# Altium footprint library R_C.PcbLib: 46 footprints (part 2 of 3)
Each footprint in its own frame and in the unit in brackets; x right, y up, seen from the top. Pads: shape width x height; smd on the part's side, far side on the other; paste and mask are expansions set on the pad; w line width, h text height; cw(c..) or ccw(c..) is an arc to the next point about the centre after c.
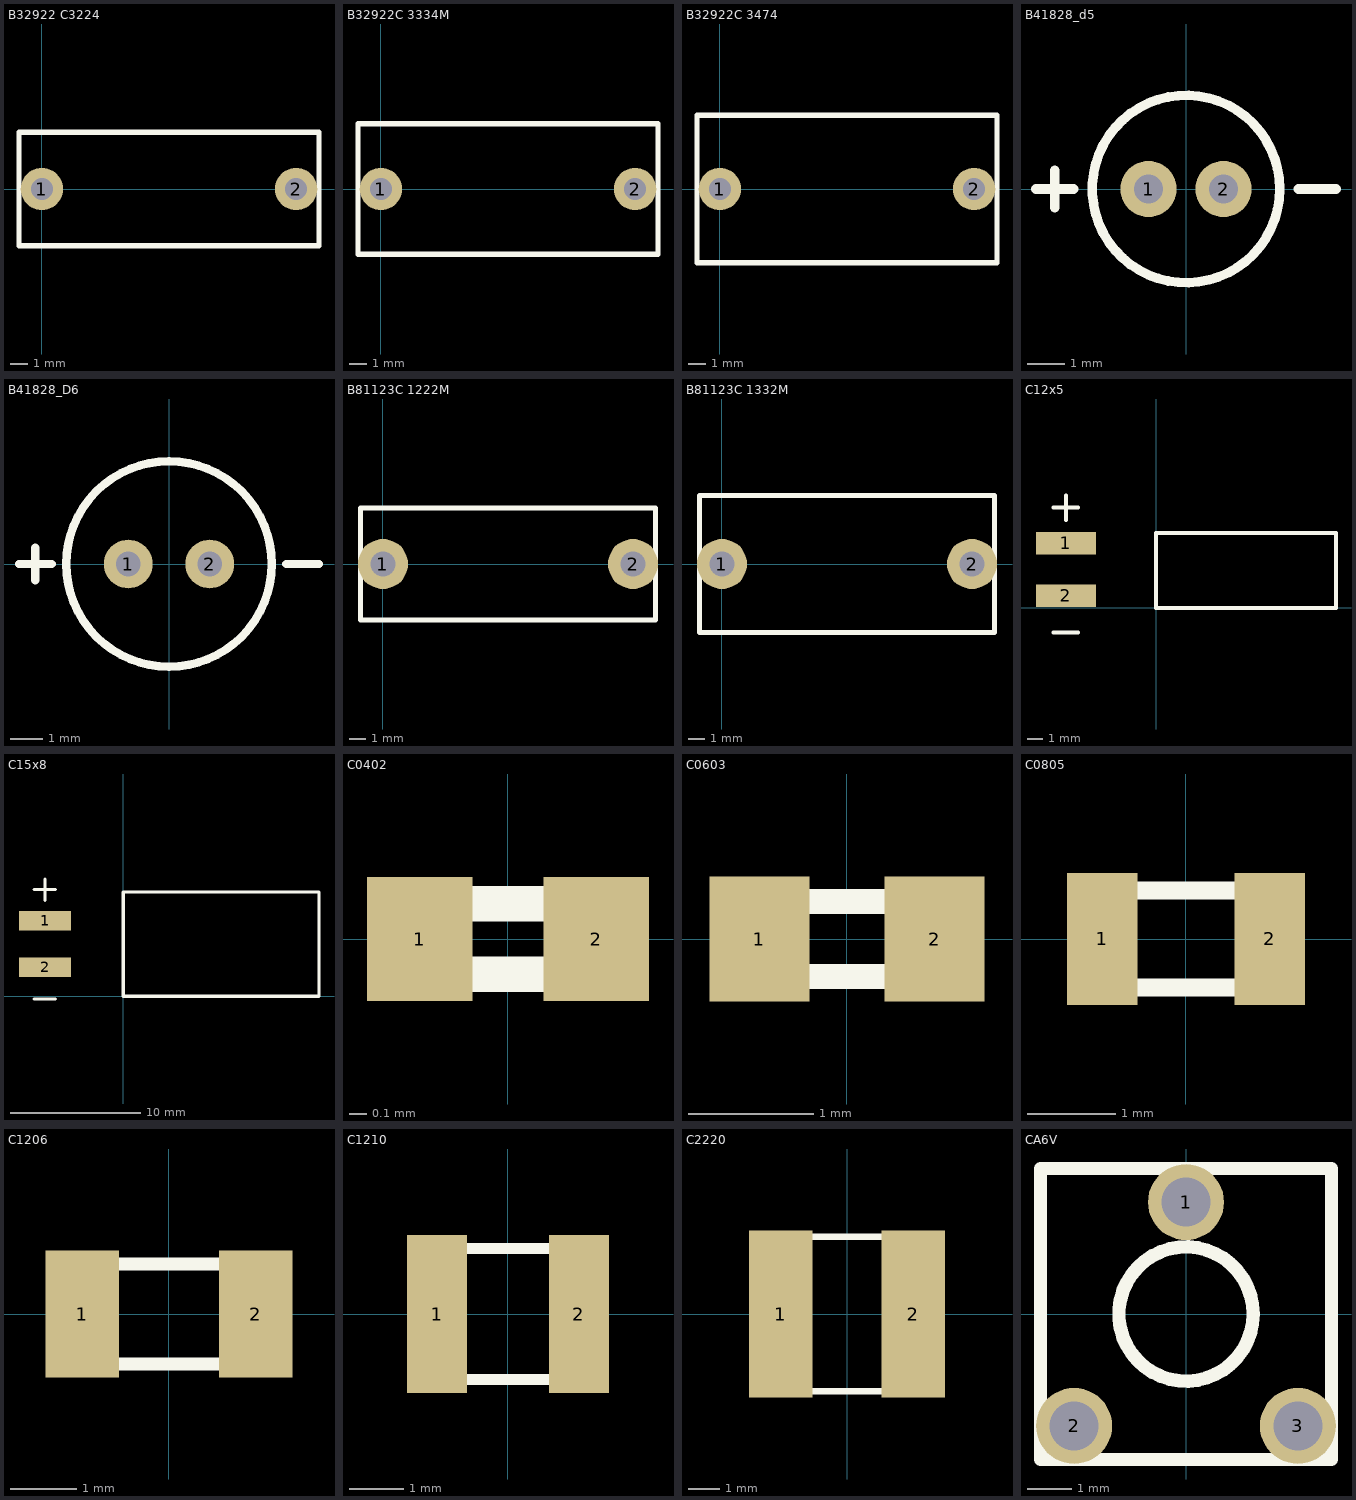
[diagram p1: the footprints below, top view; thin cyan lines are the x and y axes]

## B32922 C3224 [mm]
height 12.5
pads (2):
  round 2.5 hole 1.3: 1(0,0) 2(15,0)
Top Overlay:
  lines w0.3: -1.35,-3.35 -1.35,3.35 16.35,3.35 16.35,-3.35 -1.35,-3.35
3D body: height 3, standoff 0, extent 14.504,-0.499 15.5,0.499
3D body: height 3, standoff 0, extent -0.496,-0.499 0.5,0.499
3D body: height 12.5, standoff 0, extent -1.5,-3.5 16.5,3.5

## B32922C 3334M [mm]
height 14
pads (2):
  round 2.5 hole 1.3: 1(0,0) 2(15,0)
Top Overlay:
  lines w0.3: -1.35,-3.85 -1.35,3.85 16.35,3.85 16.35,-3.85 -1.35,-3.85
3D body: height 3, standoff 0, extent 14.504,-0.499 15.5,0.499
3D body: height 3, standoff 0, extent -0.496,-0.499 0.5,0.499
3D body: height 14, standoff 0, extent -1.5,-4 16.5,4

## B32922C 3474 [mm]
height 17.5
pads (2):
  round 2.5 hole 1.3: 1(0,0) 2(15,0)
Top Overlay:
  lines w0.3: -1.35,-4.35 -1.35,4.35 16.35,4.35 16.35,-4.35 -1.35,-4.35
3D body: height 3, standoff 0, extent 14.504,-0.499 15.5,0.499
3D body: height 3, standoff 0, extent -0.496,-0.499 0.5,0.499
3D body: height 17.5, standoff 0, extent -1.5,-4.5 16.5,4.5

## B41828_d5 [mm]
height 11
pads (2):
  round 1.5 hole 0.762: 1(-1,0) 2(1,0)
Top Overlay:
  circle w0.254: c0,0 r2.5
  lines w0.254: -4,0 -3,0 ; -3.5,-0.5 -3.5,0.5 ; 3,0 4,0

## B41828_D6 [mm]
height 11
pads (2):
  round 1.5 hole 0.762: 1(-1.25,0) 2(1.25,0)
Top Overlay:
  circle w0.254: c0,0 r3.15
  lines w0.254: -4.6,0 -3.6,0 ; -4.1,-0.5 -4.1,0.5 ; 3.6,0 4.6,0

## B81123C 1222M [mm]
height 12.5
pads (2):
  round 3 hole 1.5: 1(0,0) 2(15,0)
Top Overlay:
  lines w0.3: -1.35,-3.35 16.35,-3.35 16.35,3.35 -1.35,3.35 -1.35,-3.35
3D body: height 3, standoff 0, extent 14.504,-0.499 15.5,0.499
3D body: height 3, standoff 0, extent -0.496,-0.499 0.5,0.499
3D body: height 12.5, standoff 0, extent -1.5,-3.5 16.5,3.5

## B81123C 1332M [mm]
height 14.5
pads (2):
  round 3 hole 1.5: 1(0,0) 2(15,0)
Top Overlay:
  lines w0.3: -1.35,-4.1 -1.35,4.1 16.35,4.1 16.35,-4.1 -1.35,-4.1
3D body: height 3, standoff 0, extent 14.504,-0.499 15.5,0.499
3D body: height 3, standoff 0, extent -0.496,-0.499 0.5,0.499
3D body: height 14.5, standoff 0, extent -1.5,-4.25 16.5,4.25

## C12x5 [mm]
pads (2):
  rect 4x1.5 smd: 1(-6,4.3) 2(-6,0.8)
Top Overlay:
  lines w0.254: -6.85,-1.65 -5.2,-1.65 ; -6.85,6.7 -5.2,6.7 ; -6,5.85 -6,7.5 ; 0,0 12,0 12,5 0,5 0,0

## C15x8 [mm]
pads (2):
  rect 4x1.5 smd: 1(-6,5.8) 2(-6,2.25)
Top Overlay:
  lines w0.254: -6.85,-0.2 -5.2,-0.2 ; -6.85,8.2 -5.2,8.2 ; -6,7.35 -6,9 ; 0,0 15,0 15,8 0,8 0,0

## C0402 [mm]
height 0.6
pads (2):
  rect 0.6x0.7 smd: 1(-0.5,0) 2(0.5,0)
Top Overlay:
  lines w0.2: -0.45,-0.2 -0.45,0.2 0.45,0.2 0.45,-0.2 -0.45,-0.2
3D body: height 0.58, standoff 0.01, extent -0.55,-0.3 0.55,0.3
3D body: height 0.6, standoff 0, extent 0.2,-0.31 0.56,0.31
3D body: height 0.6, standoff 0, extent -0.56,-0.31 -0.2,0.31

## C0603 [mm]
height 0.9
pads (2):
  rect 0.8x1 smd: 1(-0.7,0) 2(0.7,0)
Top Overlay:
  lines w0.2: -0.75,-0.3 0.75,-0.3 0.75,0.3 -0.75,0.3 -0.75,-0.3
3D body: height 0.9, standoff 0, extent 0.3,-0.41 0.86,0.41
3D body: height 0.9, standoff 0, extent -0.86,-0.41 -0.3,0.41
3D body: height 0.88, standoff 0.01, extent -0.85,-0.4 0.85,0.4

## C0805 [mm]
height 1.3
pads (2):
  rect 0.8x1.5 smd: 1(-0.95,0) 2(0.95,0)
Top Overlay:
  lines w0.2: -1,-0.55 1,-0.55 1,0.55 -1,0.55 -1,-0.55
3D body: height 1.3, standoff 0, extent 0.5,-0.66 1.11,0.66
3D body: height 1.3, standoff 0, extent -1.11,-0.66 -0.5,0.66
3D body: height 1.28, standoff 0.01, extent -1.1,-0.65 1.1,0.65

## C1206 [mm]
height 1.5
pads (2):
  rect 1.1x1.9 smd: 1(-1.3,0) 2(1.3,0)
Top Overlay:
  lines w0.2: -1.5,-0.75 1.5,-0.75 1.5,0.75 -1.5,0.75 -1.5,-0.75
3D body: height 1.48, standoff 0.01, extent -1.6,-0.85 1.6,0.85
3D body: height 1.5, standoff 0, extent -1.61,-0.86 -0.75,0.86
3D body: height 1.5, standoff 0, extent 0.75,-0.86 1.61,0.86

## C1210 [mm]
height 1.7
pads (2):
  rect 1.1x2.9 smd: 1(-1.3,0) 2(1.3,0)
Top Overlay:
  lines w0.2: -1.5,-1.2 1.5,-1.2 1.5,1.2 -1.5,1.2 -1.5,-1.2
3D body: height 1.68, standoff 0.01, extent -1.6,-1.3 1.6,1.3
3D body: height 1.7, standoff 0, extent 0.75,-1.31 1.61,1.31
3D body: height 1.7, standoff 0, extent -1.61,-1.31 -0.75,1.31

## C2220 [mm]
height 1.8
pads (2):
  rect 2x5.3 smd: 1(-2.1,0) 2(2.1,0)
Top Overlay:
  lines w0.2: -2.75,-2.45 -2.75,2.45 2.75,2.45 2.75,-2.45 -2.75,-2.45
3D body: height 1.8, standoff 0, extent 1.1,-2.55 2.86,2.55
3D body: height 1.8, standoff 0, extent -2.86,-2.56 -1.1,2.56
3D body: height 1.78, standoff 0.01, extent -2.85,-2.55 2.85,2.55

## CA6V [mm]
height 5
pads (3):
  round 1.7 hole 1.1: 1(0,2.5) 2(-2.5,-2.5) 3(2.5,-2.5)
Top Overlay:
  circle w0.3: c0,0 r1.5
  lines w0.3: -3.25,-3.25 -3.25,3.25 3.25,3.25 3.25,-3.25 -3.25,-3.25
3D body: height 5, standoff -3.5, extent -3.3,-3.3 3.3,3.3